# EAGLE library part 629712010214 (library Wurth_Connectors_WR-USB)
WR-COM USB 2.0 Type C Plug Vertical SMT Kind Properties Durability 10 000 Mating cycles Gender Receptacle Type Horizontal General Information Operating Temperature -40 up to +85 °C Electrical Properties Working Voltage 20 V (DC) Withstanding Voltage 100 V (AC) Contact Resistance 40 mΩ Material Properties Insulator Material LCP Insulator Flammability Rating UL94 V-0 Insulator Color Black Contact Material Brass Contact Plating Gold over Nickel Contact Type Stamped Shielding Material Steel Shielding Plating Nickel (Ni) <https://www.we-online.com/catalog/media/o689299v209%20family-wr-com-629712010214.jpg> Details see: www.we-online.com/catalog/WR-COM_USB_20_TYPE_C_PLUG_VERTICAL_SMT <www.we-online.com/catalog/WR-COM_USB_20_TYPE_C_PLUG_VERTICAL_SMT/?utm_source=eagle_model&utm_medium=description_link&utm_campaign=eisos_eagle> Updated by Ella Wu 2022-11-15 2022 (C) Würth Elektronik
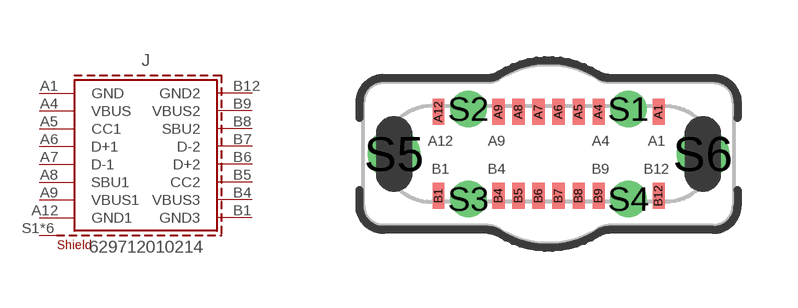
[diagram p1: symbol with the pads of 629712010214; footprint 629712010214]

Designator prefix J

## 629712010214 (APPLICATION: USB 2.0; DATASHEET-URL: https://www.we-online.com/redexpert/spec/629712010214?ae; GERDER: Receptacle; INTERFACE-TYPE: Type C; IR: 5A; MOUNT: SMT; PACKAGING: Tape and Reel; PART-NUMBER: 629712010214; PINS: 16; TYPE: Horizontal; VALUE: 629712010214; WORKING-VOLTAGE: 20V(AC))  [629712010214]
A1  GND  pas
A4  VBUS  pas
A5  CC1  pas
A6  D+1  pas
A7  D-1  pas
A8  SBU1  pas
A9  VBUS1  pas
A12  GND1  pas
B1  GND3  pas
B4  VBUS3  pas
B5  CC2  pas
B6  D+2  pas
B7  D-2  pas
B8  SBU2  pas
B9  VBUS2  pas
B12  GND2  pas
S1  SHIELD  pas
S2  SHIELD  pas
S3  SHIELD  pas
S4  SHIELD  pas
S5  SHIELD  pas
S6  SHIELD  pas

## Footprint 629712010214 (pad centres in mm)
smd 0.3 x 0.65: A1 2.75,1.05; A4 1.25,1.05; A5 0.75,1.05; A6 0.25,1.05; A7 -0.25,1.05; A8 -0.75,1.05; A9 -1.25,1.05; A12 -2.75,1.05; B1 -2.75,-1.05; B4 -1.25,-1.05; B5 -0.75,-1.05; B6 -0.25,-1.05; B7 0.25,-1.05; B8 0.75,-1.05; B9 1.25,-1.05; B12 2.75,-1.05
drill 0.4 pad 0.6: S1 2,1.125; S2 -2,1.125; S3 -2,-1.125; S4 2,-1.125
drill 0.8 pad 0.97: S5 -3.86,0; S6 3.86,0